# Altium schematic symbol library RJ45_TH_LED.Schlib: 1 symbol
Pins are listed as number, name and electrical type; pins without a type are passive.

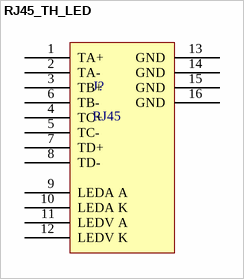
[diagram p0: symbol RJ45_TH_LED]

## RJ45_TH_LED
designator J?, comment RJ45
pins: 1 TA+, 2 TA-, 3 TB+, 4 TC+, 5 TC-, 6 TB-, 7 TD+, 8 TD-, 9 LEDA A, 10 LEDA K, 11 LEDV A, 12 LEDV K, 13 GND, 14 GND, 15 GND, 16 GND